# EAGLE library part 1-1734035-1 (library Testbed)
CONN MINI B USB R/A SMD
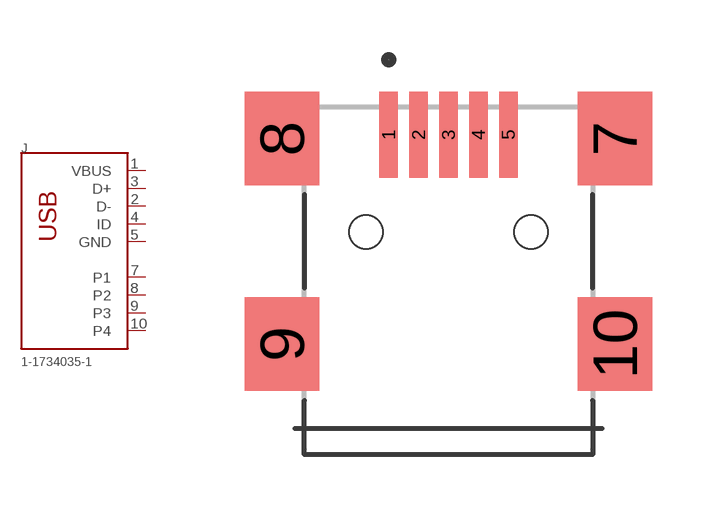
[diagram p3: symbol with the pads of TE_1-1734035-1; footprint TE_1-1734035-1]

Designator prefix J

## 1-1734035-1 (CENTERLINE_PITCH: .8 mm[.031 in]; COMMENT: 1-1734035-1; DESCRIPTION: Mini USB,R/A,SMT,B Type,pbFree; DIGI-KEY_PART_NUMBER: A123089-ND; DIGI-KEY_PURCHASE_URL: https://www.digikey.de/product-detail/en/te-connectivity-amp-connectors/1-1734035-1/A123089-ND/954005?utm_source=snapeda&utm_medium=aggregator&utm_campaign=symbol; MF: TE Connectivity; MP: 1-1734035-1; NUMBER_OF_POSITIONS: 5; PACKAGE: None; PRODUCT_TYPE: Connector)  [TE_1-1734035-1]
1  VBUS  pas
2  D-  pas
3  D+  pas
4  ID  pas
5  GND  pas
7  P1  pas
8  P2  pas
9  P3  pas
10  P4  pas

## Footprint TE_1-1734035-1 (pad centres in mm)
smd 0.5 x 2.3: 1 -1.6,7.85; 2 -0.8,7.85; 3 0,7.85; 4 0.8,7.85; 5 1.6,7.85
smd 2 x 2.5: 7 4.45,7.75; 8 -4.45,7.75; 9 -4.45,2.25; 10 4.45,2.25
hole 0.9 at -2.2,5.25
hole 0.9 at 2.2,5.25